# EAGLE library part ATMEGA48P (library bschulz)
ATmega48P/88P/168P 8 bit AVR Microcontroller Features: (441/841) Vcc: 2.7 ~ 5.5V (P) or 1.8 ~ 5.5V (PV) Clock: Up to 20MHz, Internal 8MHz FRC, 32kHz RC Flash Memory: 4/8/16K SRAM: 512/1K/1K B EEPROM: 256/512/512B ADC: 10b, 8 port USART: Yes SPI: Yes I2C: Yes Digikey: ATMEGA48PA-AUR (TQFP-32) <https://www.digikey.com/en/products/detail/microchip-technology/ATMEGA48PA-AUR/2357144> ATMEGA48PA-MNR (MLF-32) <https://www.digikey.com/en/products/detail/microchip-technology/ATMEGA48PA-MNR/2522758> ATMEGA88PA-AUR (TQFP-32) <https://www.digikey.com/en/products/detail/microchip-technology/ATMEGA88PA-AUR/2357263> ATMEGA88PA-MNR (MLF-32) <https://www.digikey.com/en/products/detail/microchip-technology/ATMEGA88PA-MNR/2522767>
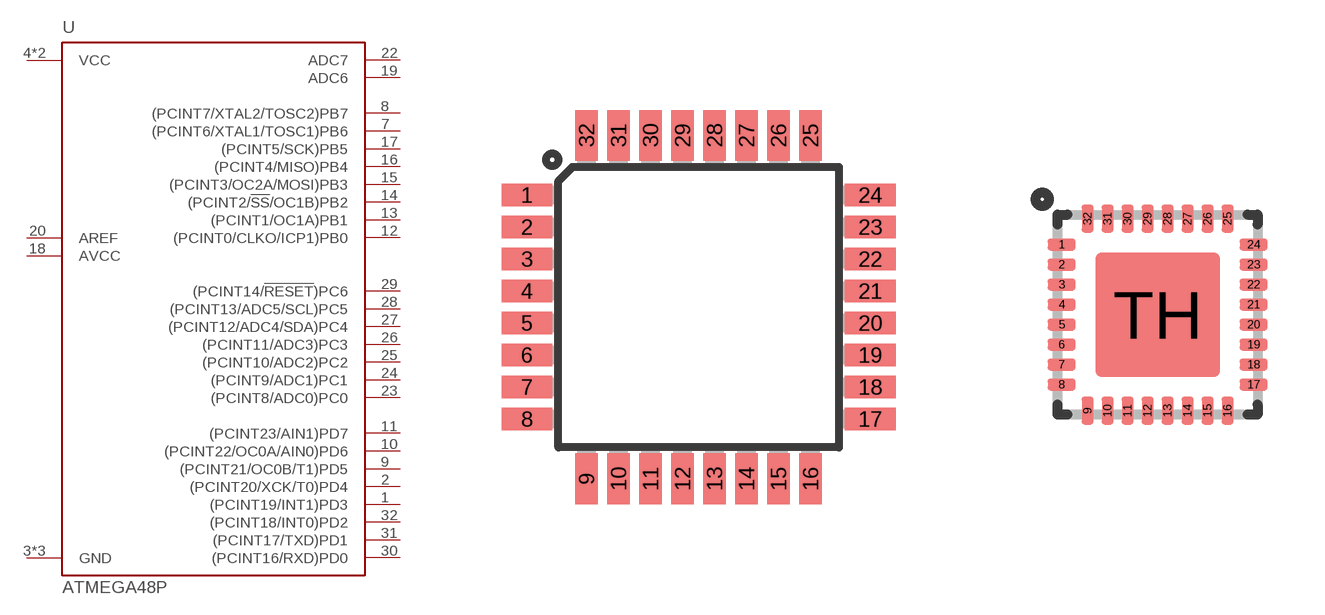
[diagram p140: symbol with the pads of TQFP32-08; footprints TQFP32-08, MLF32-5X5]

Designator prefix U

## ATMEGA48PQFN (DIGIKEY: ATMEGA48PA-AURCT-ND; MF: Microchip; MPN: ATMEGA48PA-AUR)  [TQFP32-08]
1  (PCINT19/INT1)PD3
2  (PCINT20/XCK/T0)PD4
3  GND  pwr
4  VCC  pwr
5  GND  pwr
6  VCC  pwr
7  (PCINT6/XTAL1/TOSC1)PB6
8  (PCINT7/XTAL2/TOSC2)PB7
9  (PCINT21/OC0B/T1)PD5
10  (PCINT22/OC0A/AIN0)PD6
11  (PCINT23/AIN1)PD7
12  (PCINT0/CLKO/ICP1)PB0
13  (PCINT1/OC1A)PB1
14  (PCINT2/!SS!/OC1B)PB2
15  (PCINT3/OC2A/MOSI)PB3
16  (PCINT4/MISO)PB4
17  (PCINT5/SCK)PB5
18  AVCC  pwr
19  ADC6  in
20  AREF  pas
21  GND  pwr
22  ADC7  in
23  (PCINT8/ADC0)PC0
24  (PCINT9/ADC1)PC1
25  (PCINT10/ADC2)PC2
26  (PCINT11/ADC3)PC3
27  (PCINT12/ADC4/SDA)PC4
28  (PCINT13/ADC5/SCL)PC5
29  (PCINT14/!RESET!)PC6
30  (PCINT16/RXD)PD0
31  (PCINT17/TXD)PD1
32  (PCINT18/INT0)PD2

## ATMEGA48PMLF (DIGIKEY: ATMEGA48PA-MNRCT-ND; MF: Microchip; MPN: ATMEGA48PA-MNR)  [MLF32-5X5]
1  (PCINT19/INT1)PD3
2  (PCINT20/XCK/T0)PD4
3  GND  pwr
4  VCC  pwr
5  GND  pwr
6  VCC  pwr
7  (PCINT6/XTAL1/TOSC1)PB6
8  (PCINT7/XTAL2/TOSC2)PB7
9  (PCINT21/OC0B/T1)PD5
10  (PCINT22/OC0A/AIN0)PD6
11  (PCINT23/AIN1)PD7
12  (PCINT0/CLKO/ICP1)PB0
13  (PCINT1/OC1A)PB1
14  (PCINT2/!SS!/OC1B)PB2
15  (PCINT3/OC2A/MOSI)PB3
16  (PCINT4/MISO)PB4
17  (PCINT5/SCK)PB5
18  AVCC  pwr
19  ADC6  in
20  AREF  pas
21  GND  pwr
22  ADC7  in
23  (PCINT8/ADC0)PC0
24  (PCINT9/ADC1)PC1
25  (PCINT10/ADC2)PC2
26  (PCINT11/ADC3)PC3
27  (PCINT12/ADC4/SDA)PC4
28  (PCINT13/ADC5/SCL)PC5
29  (PCINT14/!RESET!)PC6
30  (PCINT16/RXD)PD0
31  (PCINT17/TXD)PD1
32  (PCINT18/INT0)PD2
TH  GND  pwr

## Footprint TQFP32-08 (pad centres in mm)
Thin Plasic Quad Flat Package Grid 0.8 mm
smd 1.27 x 0.559: 1 -4.293,2.8; 2 -4.293,2; 3 -4.293,1.2; 4 -4.293,0.4; 5 -4.293,-0.4; 6 -4.293,-1.2; 7 -4.293,-2; 8 -4.293,-2.8; 17 4.293,-2.8; 18 4.293,-2; 19 4.293,-1.2; 20 4.293,-0.4; 21 4.293,0.4; 22 4.293,1.2; 23 4.293,2; 24 4.293,2.8
smd 0.559 x 1.27: 9 -2.8,-4.293; 10 -2,-4.293; 11 -1.2,-4.293; 12 -0.4,-4.293; 13 0.4,-4.293; 14 1.2,-4.293; 15 2,-4.293; 16 2.8,-4.293; 25 2.8,4.293; 26 2,4.293; 27 1.2,4.293; 28 0.4,4.293; 29 -0.4,4.293; 30 -1.2,4.293; 31 -2,4.293; 32 -2.8,4.293

## Footprint MLF32-5X5 (pad centres in mm)
32M1 Micro Lead Frame package (MLF) Datasheet <https://ww1.microchip.com/downloads/en/DeviceDoc/ATmega48P_88P_168P-DS40002065A.pdf> Ref Land Pad <https://www.analog.com/media/en/package-pcb-resources/package/pkg_pdf/ltc-legacy-qfn/QFN_32_05-08-1693.pdf> Note: Exposed pad different size (3.1x3.1mm vs 3.45x3.45mm) due to variance in side on actual package (see Datasheet). Also, invidiual pad sizes (0.7x0.3mm vs 0.7x0.25mm) since the slightly larger pad is standard for Atmel/Microchip layout recomendations for MLF
smd 0.7 x 0.3: 1 -2.4,1.75; 2 -2.4,1.25; 3 -2.4,0.75; 4 -2.4,0.25; 5 -2.4,-0.25; 6 -2.4,-0.75; 7 -2.4,-1.25; 8 -2.4,-1.75; 17 2.4,-1.75; 18 2.4,-1.25; 19 2.4,-0.75; 20 2.4,-0.25; 21 2.4,0.25; 22 2.4,0.75; 23 2.4,1.25; 24 2.4,1.75
smd 0.3 x 0.7: 9 -1.75,-2.4; 10 -1.25,-2.4; 11 -0.75,-2.4; 12 -0.25,-2.4; 13 0.25,-2.4; 14 0.75,-2.4; 15 1.25,-2.4; 16 1.75,-2.4; 25 1.75,2.4; 26 1.25,2.4; 27 0.75,2.4; 28 0.25,2.4; 29 -0.25,2.4; 30 -0.75,2.4; 31 -1.25,2.4; 32 -1.75,2.4
smd 3.1 x 3.1: TH 0,0